# Altium footprint library KLPX-0848A-2-B.PcbLib: 1 footprints
Each footprint in its own frame and in the unit in brackets; x right, y up, seen from the top. Pads: shape width x height; smd on the part's side, far side on the other; paste and mask are expansions set on the pad; w line width, h text height; cw(c..) or ccw(c..) is an arc to the next point about the centre after c.
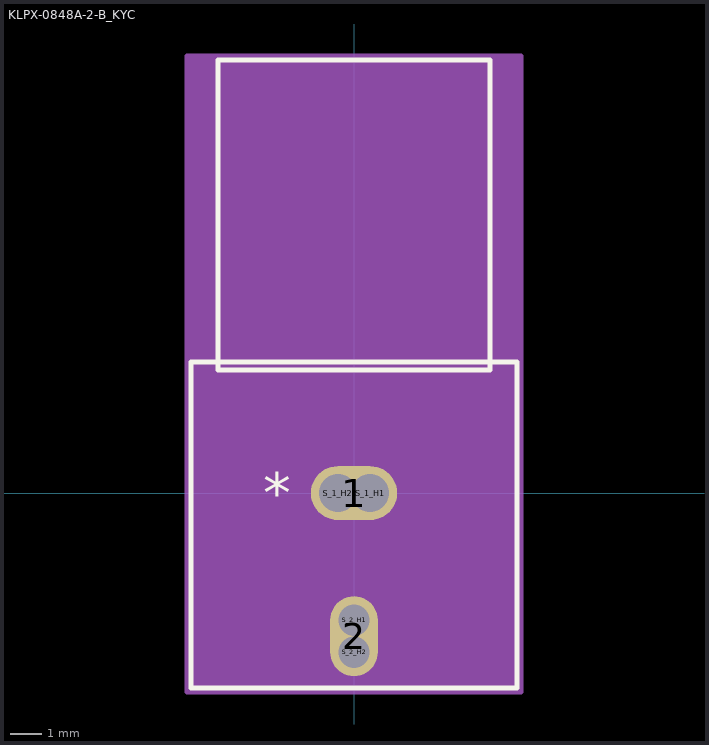
[diagram p0: the footprint, top view; thin cyan lines are the x and y axes]

## KLPX-0848A-2-B_KYC [mil]
pads (6):
  oval 107x67 smd paste+0 mask+0: 1(0,0)
  oval 59x99 smd paste+0 mask+0: 2(0,-177.17)
  round 47 / inner round 60 / far side round 47 hole 47 unplated paste-23.5 mask-23.5: S_1_H1(20,0) S_1_H2(-20,0)
  round 39 / inner round 60 / far side round 39 hole 39 unplated paste-19.5 mask-19.5: S_2_H1(0,-157.17) S_2_H2(0,-197.17)
Top Overlay:
  lines w6: -202,-241.52 -202,162.48 202,162.48 202,-241.52 -202,-241.52 ; -168.5,152.48 -168.5,536.48 168.5,536.48 168.5,152.48 -168.5,152.48
  text "*" at -112.5,-25 h50
Mechanical 13:
  lines w1: -197,-236.52 -197,157.48 197,157.48 197,-236.52 -197,-236.52 ; -163.5,157.48 -163.5,531.48 163.5,531.48 163.5,157.48 -163.5,157.48
  text "*" at -112.5,-25 h50
Mechanical 15:
  region: 207,-246.52 207,541.48 -207,541.48 -207,-246.52
  lines w6: -207,-246.52 207,-246.52 207,541.48 -207,541.48 -207,-246.52
Multi-Layer:
  lines w39: 0,-197.17 0,-157.17
  lines w47: -20,0 20,0